# EAGLE library part BLOC-SWD (library mullac)
* for Bloc SQRD
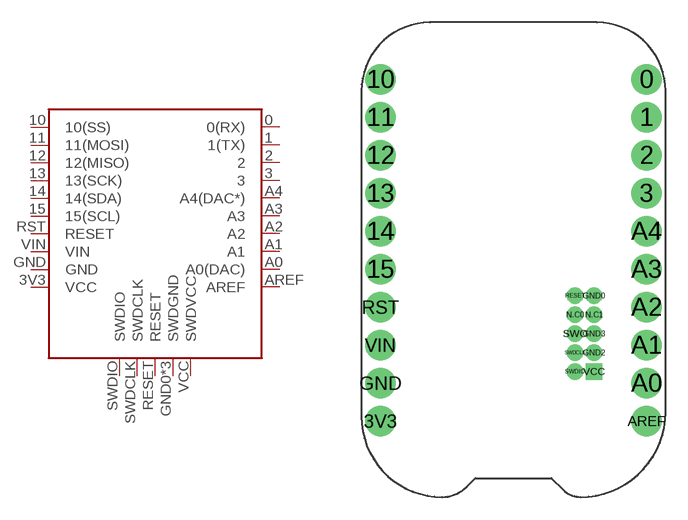
[diagram p2: symbol with the pads of BLOC-R2-SWD; footprint BLOC-R2-SWD]

Designator prefix -

## BLOC-SWD  [BLOC-R2-SWD]
0  0(RX)
1  1(TX)
2  2
3  3
3V3  VCC
10  10(SS)
11  11(MOSI)
12  12(MISO)
13  13(SCK)
14  14(SDA)
15  15(SCL)
A0  A0(DAC)
A1  A1
A2  A2
A3  A3
A4  A4(DAC*)
AREF  AREF
GND  GND
GND0  SWDGND
GND2  SWDGND
GND3  SWDGND
RESET  RESET
RST  RESET
SWDCLK  SWDCLK
SWDIO  SWDIO
VCC  SWDVCC
VIN  VIN

## Footprint BLOC-R2-SWD (pad centres in mm)
drill 1 pad 2.032: 0 17.78,27.94; 1 17.78,25.4; 2 17.78,22.86; 3 17.78,20.32; 3V3 0,5.08; 10 0,27.94; 11 0,25.4; 12 0,22.86; 13 0,20.32; 14 0,17.78; 15 0,15.24; A0 17.78,7.62; A1 17.78,10.16; A2 17.78,12.7; A3 17.78,15.24; A4 17.78,17.78; AREF 17.78,5.08; GND 0,7.62; RST 0,12.7; VIN 0,10.16
drill 0.6 pad 1.016: GND0 14.279,13.467; GND2 14.279,9.657; GND3 14.279,10.927; N.C0 13.009,12.197; N.C1 14.279,12.197; RESET 13.009,13.467; SWDCLK 13.009,9.657; SWDIO 13.009,8.387; SWO 13.009,10.927
drill 0.6 pad 1.016 square: VCC 14.279,8.387